# Altium footprint library QS6J1TR.PcbLib: 3 footprints
Each footprint in its own frame and in the unit in brackets; x right, y up, seen from the top. Pads: shape width x height; smd on the part's side, far side on the other; paste and mask are expansions set on the pad; w line width, h text height; cw(c..) or ccw(c..) is an arc to the next point about the centre after c.
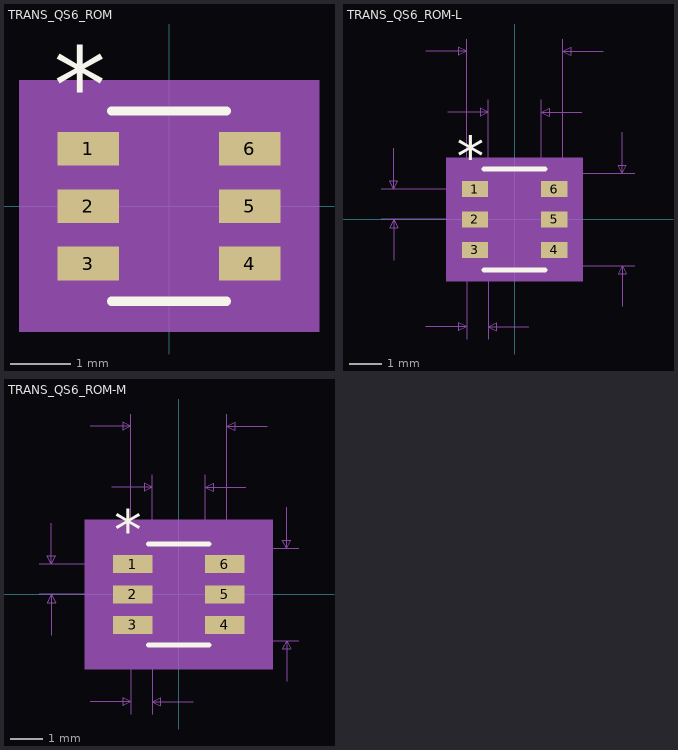
[diagram p0: the footprints below, top view; thin cyan lines are the x and y axes]

## TRANS_QS6_ROM [mm]
pads (6):
  rect 1.023x0.558 smd paste+0 mask+0: 1(-1.337,0.95) 2(-1.337,0) 3(-1.337,-0.95) 4(1.337,-0.95) 5(1.337,0) 6(1.337,0.95)
Top Overlay:
  lines w0.152: -0.953,-1.575 0.953,-1.575 ; -0.953,1.575 0.953,1.575
  text "*" at -1.909,1.381 h1.27
Mechanical 5:
  region: 2.484,-2.083 -2.484,-2.083 -2.484,2.083 2.484,2.083
Mechanical 13:
  lines w0: -0.305,1.448 ccw(c0,1.448) 0.305,1.448
  lines w0.025: -1.499,-1.204 -1.499,-0.696 -0.826,-0.696 -0.826,-1.204 -1.499,-1.204 ; -1.499,-0.254 -1.499,0.254 -0.826,0.254 -0.826,-0.254 -1.499,-0.254 ; -1.499,0.696 -1.499,1.204 -0.826,1.204 -0.826,0.696 -1.499,0.696 ; -0.826,-1.448 0.826,-1.448 0.826,1.448 -0.826,1.448 -0.826,-1.448 ; 0.826,-1.204 0.826,-0.696 1.499,-0.696 1.499,-1.204 0.826,-1.204 ; 0.826,-0.254 0.826,0.254 1.499,0.254 1.499,-0.254 0.826,-0.254 ; 0.826,0.696 0.826,1.204 1.499,1.204 1.499,0.696 0.826,0.696
  text "*" at -0.762,0.102 h1.27
Mechanical 15:
  region: -1.079,-1.483 -2.103,-1.483 -2.103,1.483 -1.079,1.483 -1.079,1.702 1.079,1.702 1.079,1.483 2.103,1.483 2.103,-1.483 1.079,-1.483 1.079,-1.702 -1.079,-1.702
  lines w0.152: -2.103,-1.483 -2.103,1.483 -1.079,1.483 -1.079,1.702 1.079,1.702 1.079,1.483 2.103,1.483 2.103,-1.483 1.079,-1.483 1.079,-1.702 -1.079,-1.702 -1.079,-1.483 -2.103,-1.483
3D body: height 0.25, standoff 0, extent 0,0 0.254,0.254

## TRANS_QS6_ROM-L [mil]
pads (6):
  rect 32.41x20 smd paste+0 mask+0: 1(-48.7,37.4) 2(-48.7,0) 3(-48.7,-37.4) 4(48.7,-37.4) 5(48.7,0) 6(48.7,37.4)
Top Overlay:
  lines w6: -37.5,-62 37.5,-62 ; -37.5,62 37.5,62
  text "*" at -71.2,52.4 h50
Mechanical 5:
  region: 83.91,-76 -83.91,-76 -83.91,76 83.91,76
Mechanical 7:
  lines w1: -163.7,0 -48.7,0 ; -163.7,37.4 -48.7,37.4 ; -148.7,-50 -148.7,0 ; -148.7,87.4 -148.7,37.4 ; -109,-132 -59,-132 ; -109,207 -59,207 ; -82.5,132 -32.5,132 ; -59,-147 -59,0 -59,222 ; -32.5,-147 -32.5,0 -32.5,147 ; 0,-57 147.5,-57 ; 0,57 147.5,57 ; 17.5,-132 -32.5,-132 ; 32.5,0 32.5,147 ; 59,0 59,222 ; 82.5,132 32.5,132 ; 109,207 59,207 ; 132.5,-107 132.5,-57 ; 132.5,107 132.5,57 ; -148.7,0 -153.7,-10 -143.7,-10 -148.7,0 ; -148.7,37.4 -153.7,47.4 -143.7,47.4 -148.7,37.4 ; -59,-132 -69,-127 -69,-137 -59,-132 ; -59,207 -69,212 -69,202 -59,207 ; -32.5,-132 -22.5,-127 -22.5,-137 -32.5,-132 ; -32.5,132 -42.5,137 -42.5,127 -32.5,132 ; 32.5,132 42.5,137 42.5,127 32.5,132 ; 59,207 69,212 69,202 59,207 ; 132.5,-57 127.5,-67 137.5,-67 132.5,-57 ; 132.5,57 127.5,67 137.5,67 132.5,57
  text "Default Padstyle: r82_51" at -300,-257 h50
  text "Pin One Padstyle: r82_51" at -300,-317 h50
  text "Alt 1 Padstyle: b152_229h76" at -337.5,-497 h50
  text "Alt 2 Padstyle: b229_152h76" at -337.5,-557 h50
  text "0.065in/1.651mm" at -93.75,152 h25
  text "0.118in/2.997mm" at -93.75,227 h25
  text "0.114in/2.896mm" at 152.5,-12.5 h25
  text "0.037in/0.95mm" at -343.7,6.2 h25
  text "0.028in/0.711mm" at -139.5,-177 h25
Mechanical 13:
  lines w0: -12,57 ccw(c0,57) 12,57
  lines w1: -59,-47.4 -59,-27.4 -32.5,-27.4 -32.5,-47.4 -59,-47.4 ; -59,-10 -59,10 -32.5,10 -32.5,-10 -59,-10 ; -59,27.4 -59,47.4 -32.5,47.4 -32.5,27.4 -59,27.4 ; -32.5,-57 32.5,-57 32.5,57 -32.5,57 -32.5,-57 ; 32.5,-47.4 32.5,-27.4 59,-27.4 59,-47.4 32.5,-47.4 ; 32.5,-10 32.5,10 59,10 59,-10 32.5,-10 ; 32.5,27.4 32.5,47.4 59,47.4 59,27.4 32.5,27.4
  text "*" at -30,4 h50
Mechanical 15:
  region: -36.5,-51.4 -68.91,-51.4 -68.91,51.4 -36.5,51.4 -36.5,61 36.5,61 36.5,51.4 68.91,51.4 68.91,-51.4 36.5,-51.4 36.5,-61 -36.5,-61
  lines w6: -68.91,-51.4 -68.91,51.4 -36.5,51.4 -36.5,61 36.5,61 36.5,51.4 68.91,51.4 68.91,-51.4 36.5,-51.4 36.5,-61 -36.5,-61 -36.5,-51.4 -68.91,-51.4
3D body: height 10, standoff 0, extent 0,0 10,10

## TRANS_QS6_ROM-M [mm]
pads (6):
  rect 1.223x0.558 smd paste+0 mask+0: 1(-1.437,0.95) 2(-1.437,0) 3(-1.437,-0.95) 4(1.437,-0.95) 5(1.437,0) 6(1.437,0.95)
Top Overlay:
  lines w0.152: -0.953,-1.575 0.953,-1.575 ; -0.953,1.575 0.953,1.575
  text "*" at -2.009,1.381 h1.27
Mechanical 5:
  region: 2.938,-2.337 -2.938,-2.337 -2.938,2.337 2.938,2.337
Mechanical 7:
  lines w0.025: -4.358,0 -1.437,0 ; -4.358,0.95 -1.437,0.95 ; -3.977,-1.27 -3.977,0 ; -3.977,2.22 -3.977,0.95 ; -2.769,-3.353 -1.499,-3.353 ; -2.769,5.258 -1.499,5.258 ; -2.095,3.353 -0.826,3.353 ; -1.499,-3.734 -1.499,0 -1.499,5.639 ; -0.826,-3.734 -0.826,0 -0.826,3.734 ; 0,-1.448 3.746,-1.448 ; 0,1.448 3.746,1.448 ; 0.445,-3.353 -0.826,-3.353 ; 0.826,0 0.826,3.734 ; 1.499,0 1.499,5.639 ; 2.095,3.353 0.826,3.353 ; 2.769,5.258 1.499,5.258 ; 3.365,-2.718 3.365,-1.448 ; 3.365,2.718 3.365,1.448 ; -3.977,0 -4.104,-0.254 -3.85,-0.254 -3.977,0 ; -3.977,0.95 -4.104,1.204 -3.85,1.204 -3.977,0.95 ; -1.499,-3.353 -1.753,-3.226 -1.753,-3.48 -1.499,-3.353 ; -1.499,5.258 -1.753,5.385 -1.753,5.131 -1.499,5.258 ; -0.826,-3.353 -0.572,-3.226 -0.572,-3.48 -0.826,-3.353 ; -0.826,3.353 -1.079,3.48 -1.079,3.226 -0.826,3.353 ; 0.826,3.353 1.079,3.48 1.079,3.226 0.826,3.353 ; 1.499,5.258 1.753,5.385 1.753,5.131 1.499,5.258 ; 3.365,-1.448 3.238,-1.702 3.492,-1.702 3.365,-1.448 ; 3.365,1.448 3.238,1.702 3.492,1.702 3.365,1.448
  text "Default Padstyle: r122_56" at -7.938,-6.528 h1.27
  text "Pin One Padstyle: r122_56" at -7.938,-8.052 h1.27
  text "Alt 1 Padstyle: b152_229h76" at -8.572,-12.624 h1.27
  text "Alt 2 Padstyle: b229_152h76" at -8.572,-14.148 h1.27
  text "0.065in/1.651mm" at -2.381,3.861 h0.64
  text "0.118in/2.997mm" at -2.381,5.766 h0.64
  text "0.114in/2.896mm" at 3.873,-0.318 h0.64
  text "0.037in/0.95mm" at -8.93,0.158 h0.64
  text "0.028in/0.711mm" at -3.543,-4.496 h0.64
Mechanical 13:
  lines w0: -0.305,1.448 ccw(c0,1.448) 0.305,1.448
  lines w0.025: -1.499,-1.204 -1.499,-0.696 -0.826,-0.696 -0.826,-1.204 -1.499,-1.204 ; -1.499,-0.254 -1.499,0.254 -0.826,0.254 -0.826,-0.254 -1.499,-0.254 ; -1.499,0.696 -1.499,1.204 -0.826,1.204 -0.826,0.696 -1.499,0.696 ; -0.826,-1.448 0.826,-1.448 0.826,1.448 -0.826,1.448 -0.826,-1.448 ; 0.826,-1.204 0.826,-0.696 1.499,-0.696 1.499,-1.204 0.826,-1.204 ; 0.826,-0.254 0.826,0.254 1.499,0.254 1.499,-0.254 0.826,-0.254 ; 0.826,0.696 0.826,1.204 1.499,1.204 1.499,0.696 0.826,0.696
  text "*" at -0.762,0.102 h1.27
Mechanical 15:
  region: -1.333,-1.737 -2.557,-1.737 -2.557,1.737 -1.333,1.737 -1.333,1.956 1.333,1.956 1.333,1.737 2.557,1.737 2.557,-1.737 1.333,-1.737 1.333,-1.956 -1.333,-1.956
  lines w0.152: -2.557,-1.737 -2.557,1.737 -1.333,1.737 -1.333,1.956 1.333,1.956 1.333,1.737 2.557,1.737 2.557,-1.737 1.333,-1.737 1.333,-1.956 -1.333,-1.956 -1.333,-1.737 -2.557,-1.737
3D body: height 0.25, standoff 0, extent 0,0 0.254,0.254